# Altium integrated library RTL8821CS.IntLib: 1 symbol
Pins are listed as number, name and electrical type; pins without a type are passive.

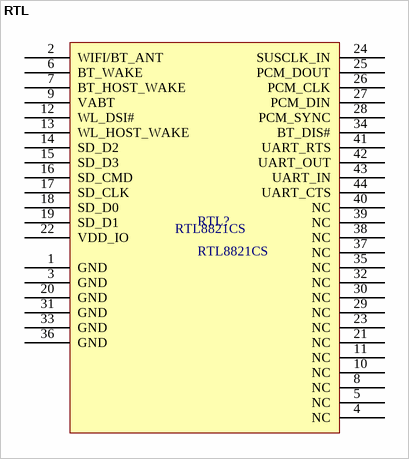
[diagram p0: symbol RTL]

## RTL
designator RTL?, comment RTL8821CS
footprint rRTL8821CS
pins: 1 GND, 2 WIFI/BT_ANT, 3 GND, 4 NC, 5 NC, 6 BT_WAKE, 7 BT_HOST_WAKE, 8 NC, 9 VABT, 10 NC, 11 NC, 12 WL_DSI#, 13 WL_HOST_WAKE, 14 SD_D2, 15 SD_D3, 16 SD_CMD, 17 SD_CLK, 18 SD_D0, 19 SD_D1, 20 GND, 21 NC, 22 VDD_IO, 23 NC, 24 SUSCLK_IN, 25 PCM_DOUT, 26 PCM_CLK, 27 PCM_DIN, 28 PCM_SYNC, 29 NC, 30 NC, 31 GND, 32 NC, 33 GND, 34 BT_DIS#, 35 NC, 36 GND, 37 NC, 38 NC, 39 NC, 40 NC, 41 UART_RTS, 42 UART_OUT, 43 UART_IN, 44 UART_CTS